# Altium integrated library 屏幕.IntLib: 6 symbols
Pins are listed as number, name and electrical type; pins without a type are passive.

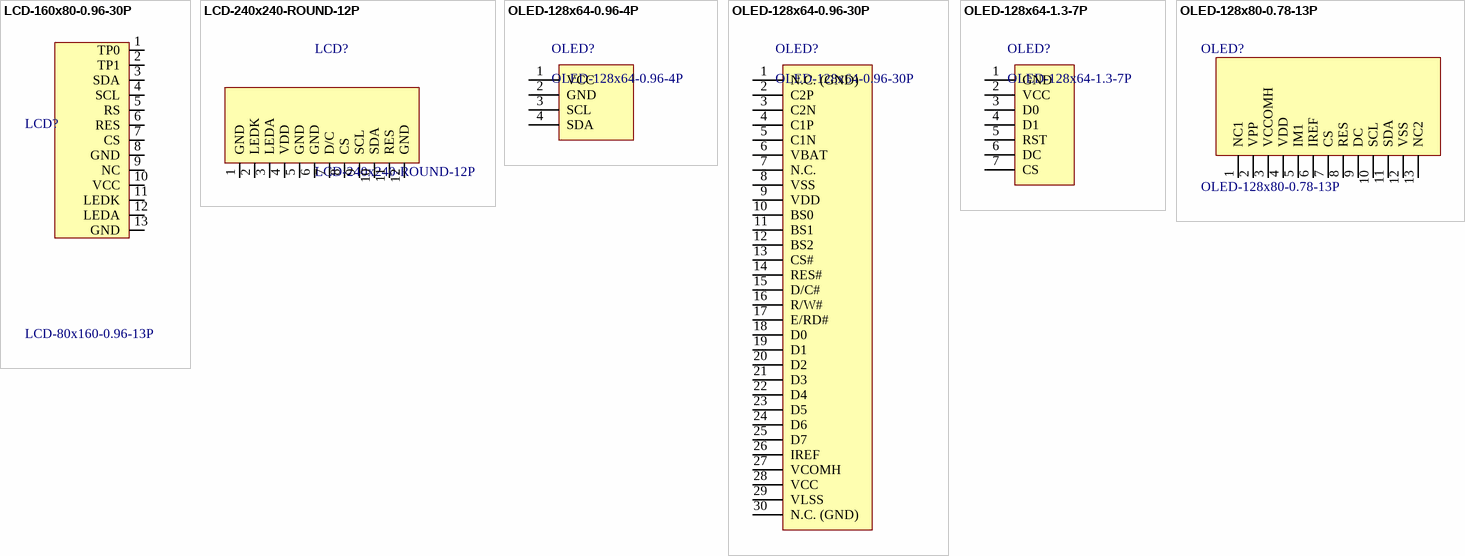
[diagram p0: symbols LCD-160x80-0.96-30P to OLED-128x80-0.78-13P]

## LCD-160x80-0.96-30P
designator LCD?, comment LCD-80x160-0.96-13P
BOM名称: 12864 点阵屏; 版权归属: 正点原子; Parameter: 显示器件; 学习资源: www.openedv.com
footprint LCD-160x80-0.96-30P-1
footprint LCD-160x80-0.96-30P-2
pins: 1 TP0, 2 TP1, 3 SDA, 4 SCL, 5 RS, 6 RES, 7 CS, 8 GND, 9 NC, 10 VCC, 11 LEDK, 12 LEDA, 13 GND

## LCD-240x240-ROUND-12P
designator LCD?
footprint LCD-240x240-ROUND-12P
pins: 1 GND, 2 LEDK, 3 LEDA, 4 VDD, 5 GND, 6 GND, 7 D/C, 8 CS, 9 SCL, 10 SDA, 11 RES, 12 GND

## OLED-128x64-0.96-4P
designator OLED?
Publisher: Bolgen Studio
footprint OLED-128x64-0.96-4P
pins: 1 VCC, 2 GND, 3 SCL, 4 SDA

## OLED-128x64-0.96-30P
designator OLED?
Publisher: Bolgen Studio
footprint OLED-128x64-0.96-30P
pins: 1 N.C. (GND), 2 C2P, 3 C2N, 4 C1P, 5 C1N, 6 VBAT, 7 N.C. , 8 VSS, 9 VDD, 10 BS0, 11 BS1, 12 BS2, 13 CS#, 14 RES#, 15 D/C#, 16 R/W#, 17 E/RD#, 18 D0, 19 D1, 20 D2, 21 D3, 22 D4, 23 D5, 24 D6, 25 D7, 26 IREF, 27 VCOMH, 28 VCC, 29 VLSS, 30 N.C. (GND)

## OLED-128x64-1.3-7P
designator OLED?
Publisher: Bolgen Studio
footprint OLED-128x64-1.3-7P
pins: 1 GND, 2 VCC, 3 D0, 4 D1, 5 RST, 6 DC, 7 CS

## OLED-128x80-0.78-13P
designator OLED?
footprint OLED-128x80-0.78-13P
pins: 1 NC1, 2 VPP, 3 VCCOMH, 4 VDD, 5 IM1, 6 IREF, 7 CS, 8 RES, 9 DC, 10 SCL, 11 SDA, 12 VSS, 13 NC2